# Altium schematic symbol library Connectors.SchLib: 39 symbols
Pins are listed as number, name and electrical type; pins without a type are passive.

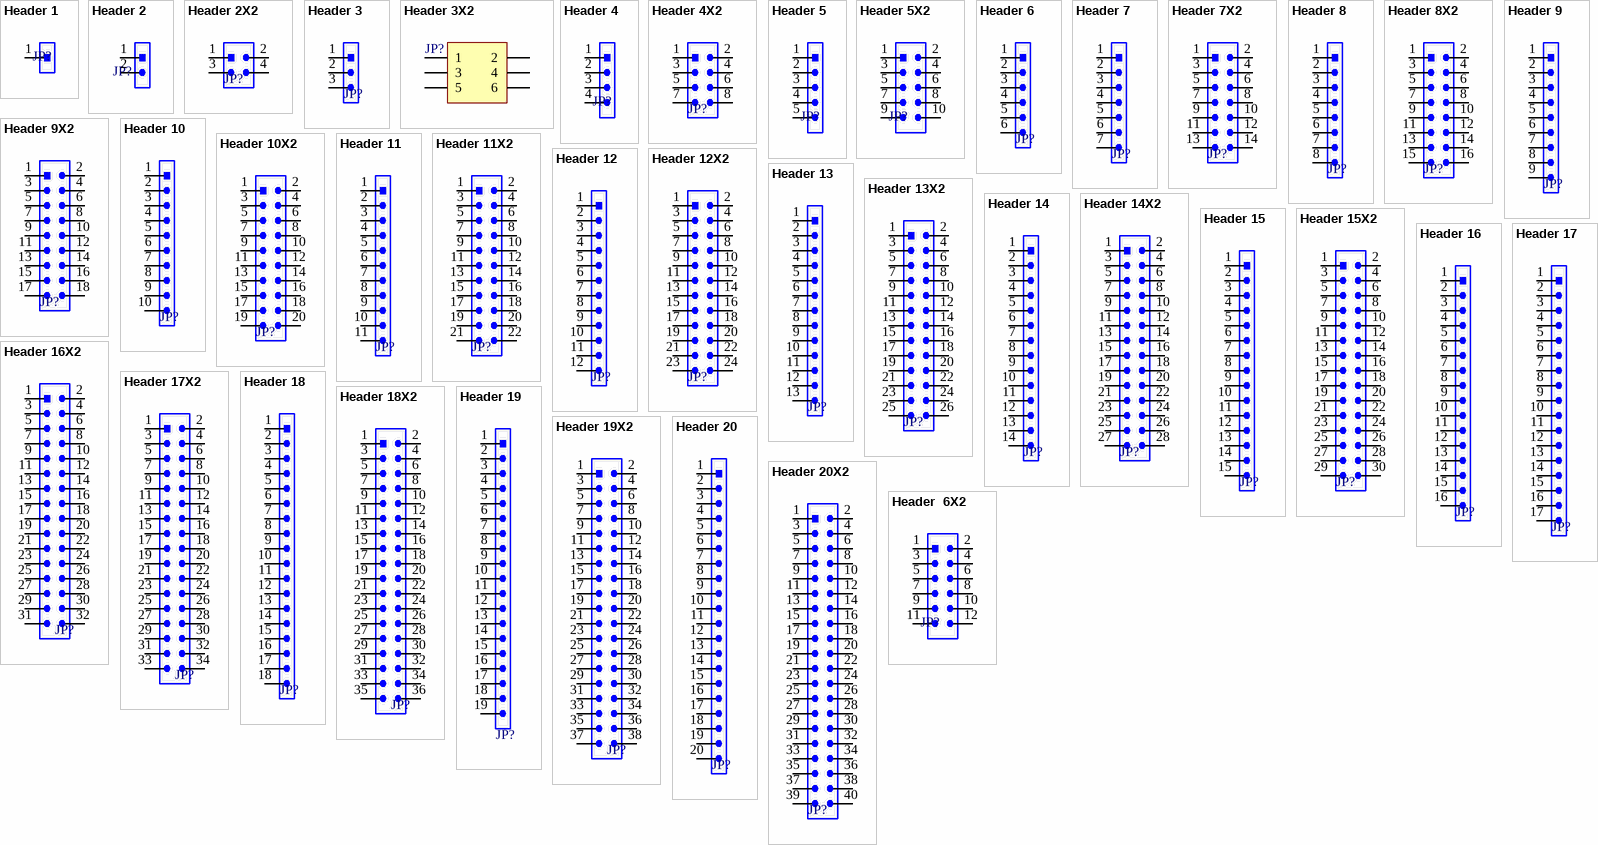
[diagram p0: symbols Header 1 to Header  6X2]

## Header 1
designator JP?, comment HDR-1X1  (value not drawn)
1P Connector; BOM名称: 1P接插件; 版权归属: 源创客; 学习资源: www.ooocke.com
footprint HDR-1X1 (排针，1脚)
footprint HDR-1X1_Y (圆孔排母，1脚)
footprint HDR-1X1_H (弯脚排针，1脚)
footprint HDR-1X1_M (排母，1脚)
pins: 1

## Header 2
designator JP?, comment HDR-1X2  (value not drawn)
2P Connector; BOM名称: 2P接插件; 版权归属: 源创客; 学习资源: www.ooocke.com
footprint HDR-1X2 (排针，2脚)
footprint HDR-1X2_H (弯脚排针，2脚)
footprint HDR-1X2_M (排母，2脚)
footprint HDR-1X2_Y (圆孔排母，2脚)
footprint XH2.54-2P (接插件，2P)
footprint KF2510-2P (接插件/2A)
footprint VH3.96-2P (接插件，25V/5A)
footprint XH2.54-2P_H (接插件，2P)
footprint VH3.96-2P_H (接插件，25V/5A)
footprint KF301-2P (可拼接端子/6A)
footprint KF2EDGK-2P (直列插拔式端子)
footprint PH2.0-2P (接插件/1A)
footprint PH2.0-2P_H (接插件/1A)
footprint KF2EDGK-2P_H (弯角插拔式端子)
footprint KF7620-2P (15.2*12*12mm(长宽高))
footprint KF124-2P (绿色直插)
pins: 1, 2

## Header 2X2
designator JP?, comment Header2X2  (value not drawn)
2*2P Connector; BOM名称: 2*2P接插件; 版权归属: 源创客; 学习资源: www.ooocke.com
footprint HDR-2X2 (双排排针，2x2脚)
footprint HDR-2X2_H (双排弯脚排针，2x2脚)
pins: 1, 2, 3, 4

## Header 3
designator JP?, comment HDR-1X3  (value not drawn)
3P Connector; BOM名称: 3P接插件; 版权归属: 源创客; 学习资源: www.ooocke.com
footprint HDR-1X3 (排针，3脚)
footprint HDR-1X3_M (排母，3脚)
footprint XH2.54-3P (接插件，3P)
footprint VH3.96-3P (接插件，25V/5A)
footprint XH2.54-3P_H (接插件，3P)
footprint HDR-1X3_H (弯脚排针，3脚)
footprint KF2510-3P (接插件/2A)
footprint HDR-1X3_Y (圆孔排母，3脚)
footprint VH3.96-3P_H (接插件，25V/5A)
footprint KF301-3P (可拼接端子/6A)
footprint KF2EDGK-3P (直列插拔式端子)
footprint PH2.0-3P (接插件/1A)
footprint PH2.0-3P_H (接插件/1A)
footprint KF2EDGK-3P_H (弯角插拔式端子)
footprint KF7620-3P (22.8*12*12mm(长宽高))
footprint XH2.54-3P-SMT (接插件，3P)
pins: 1, 2, 3

## Header 3X2
designator JP?, comment Header3X2  (value not drawn)
3*2P Connector; BOM名称: 3*2P接插件; 版权归属: 源创客; 学习资源: www.ooocke.com
footprint HDR-3X2 (双排排针，3x2脚)
footprint IDC2.54-6P (6P简易牛角座)
footprint HDR-3X2_H (双排弯脚排针，3x2脚)
pins: 1, 2, 3, 4, 5, 6

## Header 4
designator JP?, comment HDR-1X4  (value not drawn)
4P Connector; BOM名称: 4P接插件; 版权归属: 源创客; 学习资源: www.ooocke.com
footprint HDR-1X4 (排针，4脚)
footprint HDR-1X4_M (排母，4脚)
footprint XH2.54-4P (接插件，4P)
footprint KF2510-4P (接插件/2A)
footprint VH3.96-4P (接插件，25V/5A)
footprint PH2.0-4P (接插件/1A)
footprint HDR-1X4_H (弯脚排针，4脚)
footprint HDR-1X4_Y (圆孔排母，4脚)
footprint XH2.54-4P_H (接插件，4P)
footprint VH3.96-4P_H (接插件，25V/5A)
footprint KF301-4P (可拼接端子/6A)
footprint KF2EDGK-4P (直列插拔式端子)
footprint PH2.0-4P_H (接插件/1A)
footprint KF2EDGK-4P_H (弯角插拔式端子)
footprint KF7620-4P (30.5*12*12mm(长宽高))
footprint XH2.54-4P-SMT (接插件，4P)
pins: 1, 2, 3, 4

## Header 4X2
designator JP?  (value not drawn)
4*2P Connector; BOM名称: 4*2P接插件; 版权归属: 源创客; 学习资源: www.ooocke.com
footprint HDR-4X2 (双排排针，4x2脚)
footprint HDR-4X2_H (双排弯脚排针，4x2脚)
footprint IDC2.54-8P (8P简易牛角座)
pins: 1, 2, 3, 4, 5, 6, 7, 8

## Header 5
designator JP?, comment HDR-1X5  (value not drawn)
5P Connector; BOM名称: 5P接插件; 版权归属: 源创客; 学习资源: www.ooocke.com
footprint HDR-1X5_H (弯脚排针，5脚)
footprint HDR-1X5 (排针，5脚)
footprint HDR-1X5_M (排母，5脚)
footprint XH2.54-5P (接插件，5P)
footprint VH3.96-5P (接插件，25V/5A)
footprint HDR-1X5_Y (圆孔排母，5脚)
footprint KF2510-5P (接插件/2A)
footprint VH3.96-5P_H (接插件，25V/5A)
footprint XH2.54-5P_H (接插件，5P)
footprint KF301-5P (可拼接端子/6A)
footprint KF2EDGK-5P (直列插拔式端子)
footprint PH2.0-5P (接插件/1A)
footprint PH2.0-5P_H (接插件/1A)
footprint KF2EDGK-5P_H (弯角插拔式端子)
footprint KF7620-5P (38.1*12*12mm(长宽高))
pins: 1, 2, 3, 4, 5

## Header 5X2
designator JP?  (value not drawn)
5*2P Connector; BOM名称: 5*2P接插件; 版权归属: 源创客; 学习资源: www.ooocke.com
footprint HDR-5X2 (双排排针，5x2脚)
footprint IDC2.54-10P (10P简易牛角座)
footprint HDR-5X2_H (双排弯脚排针，5x2脚)
pins: 1, 2, 3, 4, 5, 6, 7, 8, 9, 10

## Header 6
designator JP?, comment HDR-1X6  (value not drawn)
6P Connector; BOM名称: 6P接插件; 版权归属: 源创客; 学习资源: www.ooocke.com
footprint HDR-1X6 (排针，6脚)
footprint HDR-1X6_M (排母，6脚)
footprint XH2.54-6P (接插件，6P)
footprint VH3.96-6P_H (接插件，25V/5A)
footprint KF2510-6P (接插件/2A)
footprint XH2.54-6P_H (接插件，6P)
footprint HDR-1X6_Y (圆孔排母，6脚)
footprint HDR-1X6_H (弯脚排针，6脚)
footprint VH3.96-6P (接插件，25V/5A)
footprint KF301-6P (可拼接端子/6A)
footprint KF2EDGK-6P (直列插拔式端子)
footprint PH2.0-6P (接插件/1A)
footprint PH2.0-6P_H (接插件/1A)
footprint KF2EDGK-6P_H (弯角插拔式端子)
footprint KF7620-6P (45.7*12*12mm(长宽高))
pins: 1, 2, 3, 4, 5, 6

## Header 7
designator JP?, comment HDR-1X7  (value not drawn)
7P Connector; BOM名称: 7P接插件; 版权归属: 源创客; 学习资源: www.ooocke.com
footprint HDR-1X7 (排针，8脚)
footprint HDR-1X7_M (排母，7脚)
footprint XH2.54-7P (接插件，7P)
footprint VH3.96-7P (接插件，25V/5A)
footprint VH3.96-7P_H (接插件，25V/5A)
footprint KF2510-7P (接插件/2A)
footprint XH2.54-7P_H (接插件，7P)
footprint HDR-1X7_Y (圆孔排母，7脚)
footprint HDR-1X7_H (弯脚排针，7脚)
footprint KF301-7P (可拼接端子/6A)
footprint KF2EDGK-7P (直列插拔式端子)
footprint PH2.0-7P (接插件/1A)
footprint PH2.0-7P_H (接插件/1A)
footprint KF2EDGK-7P_H (弯角插拔式端子)
footprint KF7620-7P (Footprint not found)
pins: 1, 2, 3, 4, 5, 6, 7

## Header 7X2
designator JP?, comment Header 2X7  (value not drawn)
7*2P Connector; BOM名称: 7*2P接插件; 版权归属: 源创客; 学习资源: www.ooocke.com
footprint HDR-7X2 (双排排针，7x2脚)
footprint IDC2.54-14P (14P简易牛角座)
footprint HDR-7X2_H (双排弯脚排针，7x2脚)
pins: 1, 2, 3, 4, 5, 6, 7, 8, 9, 10, 11, 12, 13, 14

## Header 8
designator JP?, comment HDR-1X8  (value not drawn)
8P Connector; BOM名称: 8P接插件; 版权归属: 源创客; 学习资源: www.ooocke.com
footprint HDR-1X8 (排针，8脚)
footprint HDR-1X8_M (排母，8脚)
footprint XH2.54-8P (接插件，8P)
footprint VH3.96-8P_H (接插件，25V/5A)
footprint VH3.96-8P (接插件，25V/5A)
footprint KF2510-8P (接插件/2A)
footprint XH2.54-8P_H (接插件，8P)
footprint HDR-1X8_Y (圆孔排母，8脚)
footprint HDR-1X8_H (弯脚排针，8脚)
footprint KF301-8P (可拼接端子/6A)
footprint KF2EDGK-8P (直列插拔式端子)
footprint PH2.0-8P (接插件/1A)
footprint PH2.0-8P_H (接插件/1A)
footprint KF2EDGK-8P_H (弯角插拔式端子)
footprint KF7620-8P (61*12*12mm(长宽高))
pins: 1, 2, 3, 4, 5, 6, 7, 8

## Header 8X2
designator JP?  (value not drawn)
8*2P Connector; BOM名称: 8*2P接插件; 版权归属: 源创客; 学习资源: www.ooocke.com
footprint HDR-8X2 (双排排针，8x2脚)
footprint IDC2.54-16P (16P简易牛角座)
footprint HDR-8X2_H (双排弯脚排针，8x2脚)
pins: 1, 2, 3, 4, 5, 6, 7, 8, 9, 10, 11, 12, 13, 14, 15, 16

## Header 9
designator JP?, comment HDR-1X9  (value not drawn)
9P Connector; BOM名称: 9P接插件; 版权归属: 源创客; 学习资源: www.ooocke.com
footprint HDR-1X9 (排针，9脚)
footprint HDR-1X9_H (弯脚排针，9脚)
footprint HDR-1X9_Y (圆孔排母，9脚)
footprint PH2.0-9P (接插件/1A)
footprint PH2.0-9P_H (接插件/1A)
footprint XH2.54-9P (接插件，9P)
footprint XH2.54-9P_H (接插件，9P)
footprint HDR-1X9_M (排母，9脚)
pins: 1, 2, 3, 4, 5, 6, 7, 8, 9

## Header 9X2
designator JP?  (value not drawn)
9*2P Connector; BOM名称: 9*2P接插件; 版权归属: 源创客; 学习资源: www.ooocke.com
footprint HDR-9X2 (双排排针，9x2脚)
footprint HDR-9X2_H (双排弯脚排针，9x2脚)
pins: 1, 2, 3, 4, 5, 6, 7, 8, 9, 10, 11, 12, 13, 14, 15, 16, 17, 18

## Header 10
designator JP?, comment HDR-1X10  (value not drawn)
10P Connector; BOM名称: 10P接插件; 版权归属: 源创客; 学习资源: www.ooocke.com
footprint HDR-1X10 (排针，10脚)
footprint HDR-1X10_H (弯脚排针，10脚)
footprint HDR-1X10_Y (圆孔排母，10脚)
footprint PH2.0-10P (接插件/1A)
footprint PH2.0-10P_H (接插件/1A)
footprint XH2.54-10P (接插件，10P)
footprint XH2.54-10P_H
footprint HDR-1X10_M (排母，10脚)
pins: 1, 2, 3, 4, 5, 6, 7, 8, 9, 10

## Header 10X2
designator JP?, comment Header 2X10  (value not drawn)
10*2P Connector; BOM名称: 10*2P接插件; 版权归属: 源创客; 学习资源: www.ooocke.com
footprint HDR-10X2 (双排排针，10x2脚)
footprint IDC2.54-20P (20P简易牛角座)
footprint HDR-10X2_H
pins: 1, 2, 3, 4, 5, 6, 7, 8, 9, 10, 11, 12, 13, 14, 15, 16, 17, 18, 19, 20

## Header 11
designator JP?, comment HDR-1X11  (value not drawn)
11P Connector; BOM名称: 11P接插件; 版权归属: 源创客; 学习资源: www.ooocke.com
footprint HDR-1X11 (排针)
footprint HDR-1X11_H (弯脚排针，11脚)
footprint HDR-1X11_Y (圆孔排母，11脚)
footprint PH2.0-11P (接插件/1A)
footprint PH2.0-11P_H (接插件/1A)
footprint XH2.54-11P (接插件，11P)
footprint XH2.54-11P_H (接插件，11P)
footprint HDR-1X11_M (排母，11脚)
pins: 1, 2, 3, 4, 5, 6, 7, 8, 9, 10, 11

## Header 11X2
designator JP?, comment Header 2X11  (value not drawn)
11*2P Connector; BOM名称: 11*2P接插件; 版权归属: 源创客; 学习资源: www.ooocke.com
footprint HDR-11X2 (双排排针，11x2脚)
footprint HDR-11X2_H (双排弯脚排针，11x2脚)
pins: 1, 2, 3, 4, 5, 6, 7, 8, 9, 10, 11, 12, 13, 14, 15, 16, 17, 18, 19, 20, 21, 22

## Header 12
designator JP?, comment HDR-1X12  (value not drawn)
12P Connector; BOM名称: 12P接插件; 版权归属: 源创客; 学习资源: www.ooocke.com
footprint HDR-1X12 (排针，13脚)
footprint HDR-1X12_H (弯脚排针，12脚)
footprint HDR-1X12_Y (圆孔排母，12脚)
footprint PH2.0-12P (接插件/1A)
footprint PH2.0-12P_H (接插件/1A)
footprint XH2.54-12P (接插件，12P)
footprint XH2.54-12P_H (接插件，12P)
footprint HDR-1X12_M (排母，12脚)
footprint FPC1.0-12P (翻盖FPC，脚距1mm，不含脚（长16.9mm，宽5.2mm，高1.96mm）)
pins: 1, 2, 3, 4, 5, 6, 7, 8, 9, 10, 11, 12

## Header 12X2
designator JP?, comment Header 2X11  (value not drawn)
12*2P Connector; BOM名称: 12*2P接插件; 版权归属: 源创客; 学习资源: www.ooocke.com
footprint HDR-12X2 (双排排针，12x2脚)
footprint IDC2.54-24P (24P简易牛角座)
footprint HDR-12X2_H (双排弯脚排针，12x2脚)
pins: 1, 2, 3, 4, 5, 6, 7, 8, 9, 10, 11, 12, 13, 14, 15, 16, 17, 18, 19, 20, 21, 22, 23, 24

## Header 13
designator JP?, comment HDR-1X13  (value not drawn)
13P Connector; BOM名称: 13P接插件; 版权归属: 源创客; 学习资源: www.ooocke.com
footprint HDR-1X13 (排针，13脚)
footprint HDR-1X13_H (弯脚排针，13脚)
footprint HDR-1X13_Y (圆孔排母，13脚)
footprint HDR-1X13_M (排母，13脚)
pins: 1, 2, 3, 4, 5, 6, 7, 8, 9, 10, 11, 12, 13

## Header 13X2
designator JP?, comment Header 2X11  (value not drawn)
13*2P Connector; BOM名称: 13*2P接插件; 版权归属: 源创客; 学习资源: www.ooocke.com
footprint HDR-13X2 (双排排针，13x2脚)
footprint IDC2.54-26P (26P简易牛角座)
footprint HDR-13X2_H (双排弯脚排针，13x2脚)
pins: 1, 2, 3, 4, 5, 6, 7, 8, 9, 10, 11, 12, 13, 14, 15, 16, 17, 18, 19, 20, 21, 22, 23, 24, 25, 26

## Header 14
designator JP?, comment HDR-1X14  (value not drawn)
14P Connector; BOM名称: 14P接插件; 版权归属: 源创客; 学习资源: www.ooocke.com
footprint HDR-1X14_H (弯脚排针，14脚)
footprint HDR-1X14 (排针，14脚)
footprint HDR-1X14_Y (圆孔排母，14脚)
footprint HDR-1X14_M (排母，14脚)
pins: 1, 2, 3, 4, 5, 6, 7, 8, 9, 10, 11, 12, 13, 14

## Header 14X2
designator JP?, comment Header 2X11  (value not drawn)
14*2P Connector; BOM名称: 14*2P接插件; 版权归属: 源创客; 学习资源: www.ooocke.com
footprint HDR-14X2 (双排排针，14x2脚)
footprint HDR-14X2_H (双排弯脚排针，14x2脚)
pins: 1, 2, 3, 4, 5, 6, 7, 8, 9, 10, 11, 12, 13, 14, 15, 16, 17, 18, 19, 20, 21, 22, 23, 24, 25, 26, 27, 28

## Header 15
designator JP?, comment HDR-1X15  (value not drawn)
15P Connector; BOM名称: 15P接插件; 版权归属: 源创客; 学习资源: www.ooocke.com
footprint HDR-1X15_H (弯脚排针，15脚)
footprint HDR-1X15 (排针，15脚)
footprint HDR-1X15_Y (圆孔排母，15脚)
footprint HDR-1X15_M (排母，15脚)
pins: 1, 2, 3, 4, 5, 6, 7, 8, 9, 10, 11, 12, 13, 14, 15

## Header 15X2
designator JP?, comment Header 2X11  (value not drawn)
15*2P Connector; BOM名称: 15*2P接插件; 版权归属: 源创客; 学习资源: www.ooocke.com
footprint HDR-15X2 (双排排针，15x2脚)
footprint IDC2.54-30P (30P简易牛角座)
footprint HDR-15X2_H (双排弯脚排针，15x2脚)
pins: 1, 2, 3, 4, 5, 6, 7, 8, 9, 10, 11, 12, 13, 14, 15, 16, 17, 18, 19, 20, 21, 22, 23, 24, 25, 26, 27, 28, 29, 30

## Header 16
designator JP?, comment HDR-1X16  (value not drawn)
16P Connector; BOM名称: 16P接插件; 版权归属: 源创客; 学习资源: www.ooocke.com
footprint HDR-1X16 (排针，16脚)
footprint HDR-1X16_H (弯脚排针，16脚)
footprint HDR-1X16_Y (圆孔排母，16脚)
footprint HDR-1X16_M (排母，16脚)
pins: 1, 2, 3, 4, 5, 6, 7, 8, 9, 10, 11, 12, 13, 14, 15, 16

## Header 16X2
designator JP?, comment Header 2X11  (value not drawn)
16*2P Connector; BOM名称: 16*2P接插件; 版权归属: 源创客; 学习资源: www.ooocke.com
footprint HDR-16X2 (双排排针，16x2脚)
footprint HDR-16X2_H (双排弯脚排针，16x2脚)
pins: 1, 2, 3, 4, 5, 6, 7, 8, 9, 10, 11, 12, 13, 14, 15, 16, 17, 18, 19, 20, 21, 22, 23, 24, 25, 26, 27, 28, 29, 30, 31, 32

## Header 17
designator JP?, comment HDR-1X17  (value not drawn)
17P Connector; BOM名称: 17P接插件; 版权归属: 源创客; 学习资源: www.ooocke.com
footprint HDR-1X17 (排针，17脚)
footprint HDR-1X17_H (弯脚排针，17脚)
footprint HDR-1X17_Y (圆孔排母，17脚)
footprint HDR-1X17_M (排母，17脚)
pins: 1, 2, 3, 4, 5, 6, 7, 8, 9, 10, 11, 12, 13, 14, 15, 16, 17

## Header 17X2
designator JP?, comment Header 2X11  (value not drawn)
17*2P Connector; BOM名称: 17*2P接插件; 版权归属: 源创客; 学习资源: www.ooocke.com
footprint HDR-17X2 (双排排针，17x2脚)
footprint IDC2.54-34P (34P简易牛角座)
footprint HDR-17X2_H (双排弯脚排针，17x2脚)
pins: 1, 2, 3, 4, 5, 6, 7, 8, 9, 10, 11, 12, 13, 14, 15, 16, 17, 18, 19, 20, 21, 22, 23, 24, 25, 26, 27, 28, 29, 30, 31, 32, 33, 34

## Header 18
designator JP?, comment HDR-1X18  (value not drawn)
18P Connector; BOM名称: 18P接插件; 版权归属: 源创客; 学习资源: www.ooocke.com
footprint HDR-1X18 (排针，18脚)
footprint HDR-1X18_H (弯脚排针，18脚)
footprint HDR-1X18_Y (圆孔排母，18脚)
footprint HDR-1X18_M (排母，18脚)
pins: 1, 2, 3, 4, 5, 6, 7, 8, 9, 10, 11, 12, 13, 14, 15, 16, 17, 18

## Header 18X2
designator JP?, comment Header 2X11  (value not drawn)
18*2P Connector; BOM名称: 18*2P接插件; 版权归属: 源创客; 学习资源: www.ooocke.com
footprint HDR-18X2 (双排排针，18x2脚)
footprint HDR-18X2_H (双排弯脚排针，18x2脚)
pins: 1, 2, 3, 4, 5, 6, 7, 8, 9, 10, 11, 12, 13, 14, 15, 16, 17, 18, 19, 20, 21, 22, 23, 24, 25, 26, 27, 28, 29, 30, 31, 32, 33, 34, 35, 36

## Header 19
designator JP?, comment HDR-1X19  (value not drawn)
19P Connector; BOM名称: 19P接插件; 版权归属: 源创客; 学习资源: www.ooocke.com
footprint HDR-1X19 (排针，19脚)
footprint HDR-1X19_H (弯脚排针，19脚)
footprint HDR-1X19_Y (圆孔排母，19脚)
footprint HDR-1X19_M (排母，19脚)
pins: 1, 2, 3, 4, 5, 6, 7, 8, 9, 10, 11, 12, 13, 14, 15, 16, 17, 18, 19

## Header 19X2
designator JP?, comment Header 2X11  (value not drawn)
19*2P Connector; BOM名称: 19*2P接插件; 版权归属: 源创客; 学习资源: www.ooocke.com
footprint HDR-19X2 (双排排针，19x2脚)
footprint HDR-19X2_H (双排弯脚排针，19x2脚)
pins: 1, 2, 3, 4, 5, 6, 7, 8, 9, 10, 11, 12, 13, 14, 15, 16, 17, 18, 19, 20, 21, 22, 23, 24, 25, 26, 27, 28, 29, 30, 31, 32, 33, 34, 35, 36, 37, 38

## Header 20
designator JP?, comment HDR-1X20  (value not drawn)
20P Connector; BOM名称: 20P接插件; 版权归属: 源创客; 学习资源: www.ooocke.com
footprint HDR-1X20 (排针，20脚)
footprint HDR-1X20_H (弯脚排针，20脚)
footprint HDR-1X20_Y (圆孔排母，20脚)
footprint HDR-1X20_M (排母，20脚)
pins: 1, 2, 3, 4, 5, 6, 7, 8, 9, 10, 11, 12, 13, 14, 15, 16, 17, 18, 19, 20

## Header 20X2
designator JP?, comment Header 2X11  (value not drawn)
20*2P Connector; BOM名称: 20*2P接插件; 版权归属: 源创客; 学习资源: www.ooocke.com
footprint HDR-20X2 (双排排针，20x2脚)
footprint IDC2.54-40P (40P简易牛角座)
footprint HDR-20X2_H (双排弯脚排针，20x2脚)
pins: 1, 2, 3, 4, 5, 6, 7, 8, 9, 10, 11, 12, 13, 14, 15, 16, 17, 18, 19, 20, 21, 22, 23, 24, 25, 26, 27, 28, 29, 30, 31, 32, 33, 34, 35, 36, 37, 38, 39, 40

## Header  6X2
designator JP?, comment Header 6X2  (value not drawn)
6*2P Connector; BOM名称: 6*2P接插件; 版权归属: 源创客; 学习资源: www.ooocke.com
footprint HDR-6X2 (双排排针，6x2脚)
footprint HDR-6X2_H (双排弯脚排针，6x2脚)
footprint IDC2.54-12P (12P简易牛角座)
pins: 1, 2, 3, 4, 5, 6, 7, 8, 9, 10, 11, 12